# Altium footprint library MQ137.PcbLib: 1 footprints
Each footprint in its own frame and in the unit in brackets; x right, y up, seen from the top. Pads: shape width x height; smd on the part's side, far side on the other; paste and mask are expansions set on the pad; w line width, h text height; cw(c..) or ccw(c..) is an arc to the next point about the centre after c.
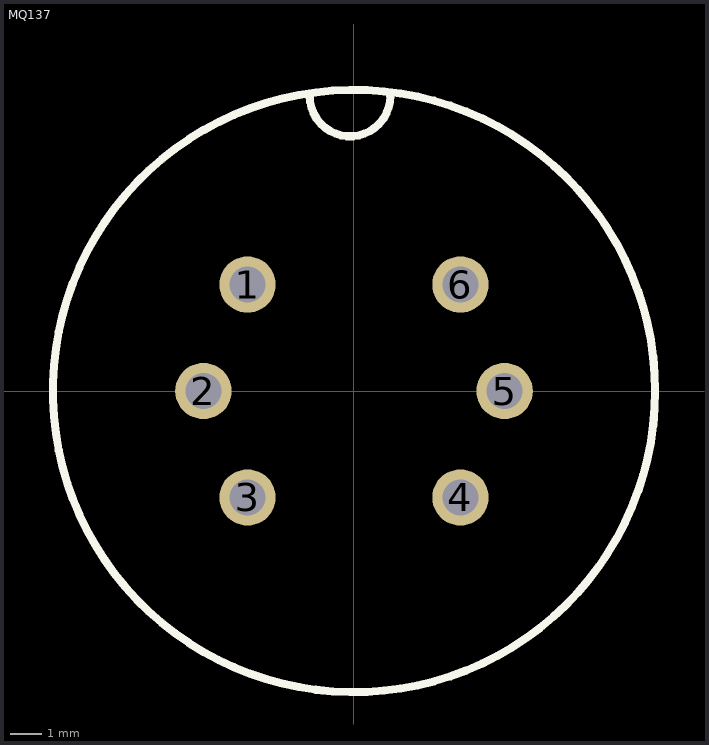
[diagram p0: the footprint, top view; thin cyan lines are the x and y axes]

## MQ137 [mil]
pads (6):
  round 70 hole 45: 1(-132.24,132.24) 2(-187.01,0) 3(-132.24,-132.24) 4(132.23,-132.24) 5(187.01,0) 6(132.23,132.23)
Top Overlay:
  circle w10: c0.02,0 r374.02
  lines w10: -54.94,366.28 ccw(c-4.94,366.28) 45.06,366.28